# Altium footprint library 芯片.PcbLib: 193 footprints (part 1 of 13)
Each footprint in its own frame and in the unit in brackets; x right, y up, seen from the top. Pads: shape width x height; smd on the part's side, far side on the other; paste and mask are expansions set on the pad; w line width, h text height; cw(c..) or ccw(c..) is an arc to the next point about the centre after c.
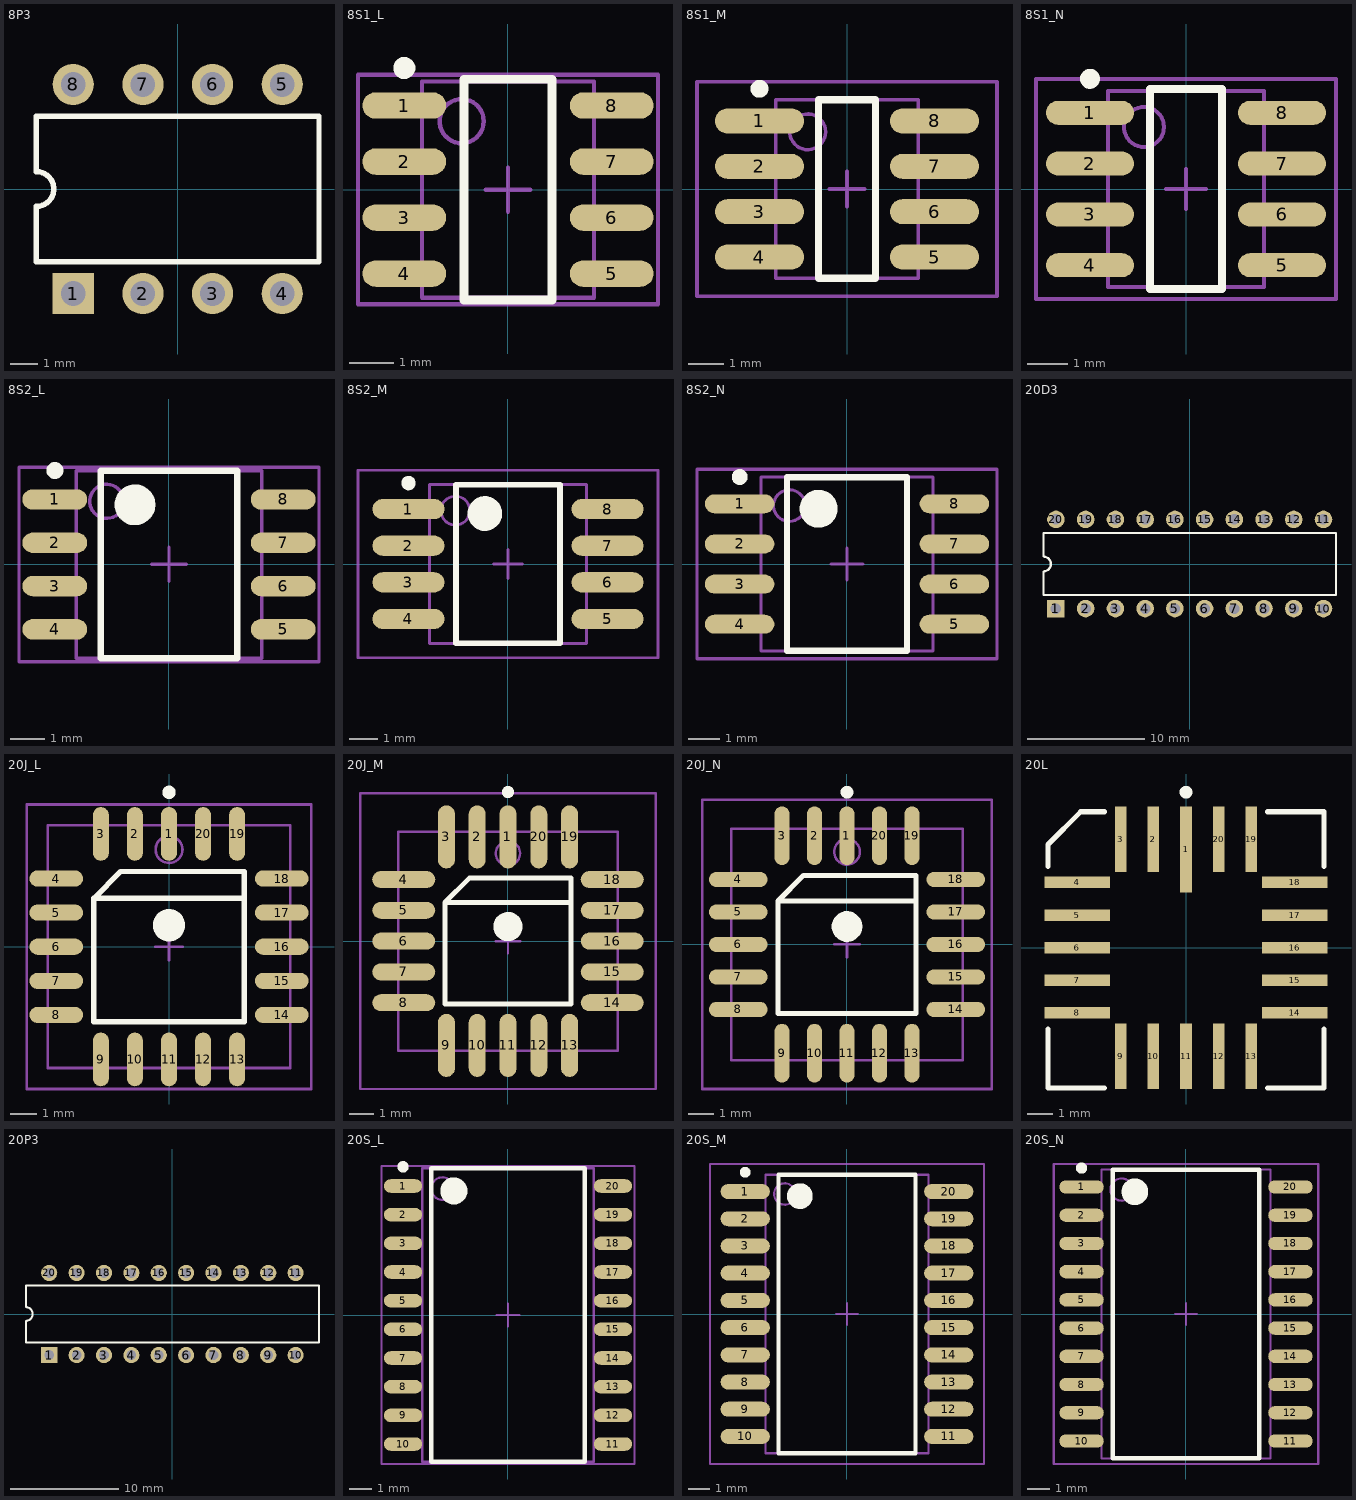
[diagram p0: the footprints below, top view; thin cyan lines are the x and y axes]

## 8P3 [mm] "DIP; 8 Leads; Row Spacing 7.62 mm; Pitch 2.54 mm"
height 5.33
pads (8):
  rect 1.5x1.5 hole 0.9: 1(-3.81,-3.81)
  round 1.5 hole 0.9: 2(-1.27,-3.81) 3(1.27,-3.81) 4(3.81,-3.81) 5(3.81,3.81) 6(1.27,3.81) 7(-1.27,3.81) 8(-3.81,3.81)
Top Overlay:
  lines w0.2: -5.15,-2.65 5.15,-2.65 5.15,2.65 -5.15,2.65 -5.15,0.635 cw(c-5.15,0) -5.15,-0.635 -5.15,-2.65

## 8S1_L [mm] "8-Pin Small Outline Integrated Circuit 1.27 mm Pitch, IPC High Density"
height 1.73
pads (8):
  oval 1.9x0.6 smd: 1(-2.35,1.905) 2(-2.35,0.635) 3(-2.35,-0.635) 4(-2.35,-1.905) 5(2.35,-1.905) 6(2.35,-0.635) 7(2.35,0.635) 8(2.35,1.905)
Top Overlay:
  circle w0.25: c-2.35,2.755 r0.125
  lines w0.2: -1,-2.5 1,-2.5 1,2.5 -1,2.5 -1,-2.5
Mechanical 13:
  circle w0.1: c-1.05,1.55 r0.5
  lines w0.1: -1.95,-2.45 1.95,-2.45 1.95,2.45 -1.95,2.45 -1.95,-2.45
Mechanical 15:
  lines w0.1: -0.5,0 0.5,0 ; 0,-0.5 0,0.5 ; -3.4,-2.6 3.4,-2.6 3.4,2.6 -3.4,2.6 -3.4,-2.6
3D body: height 1.73, standoff 0, extent -1.95,-2.45 1.95,2.45

## 8S1_M [mm] "8-Pin Small Outline Integrated Circuit 1.27 mm Pitch, IPC Low Density"
height 1.73
pads (8):
  oval 2.5x0.7 smd: 1(-2.45,1.905) 2(-2.45,0.635) 3(-2.45,-0.635) 4(-2.45,-1.905) 5(2.45,-1.905) 6(2.45,-0.635) 7(2.45,0.635) 8(2.45,1.905)
Top Overlay:
  circle w0.25: c-2.45,2.805 r0.125
  lines w0.2: -0.8,-2.5 -0.8,2.5 0.8,2.5 0.8,-2.5 -0.8,-2.5
Mechanical 13:
  circle w0.1: c-1.1,1.6 r0.5
  lines w0.1: -2,-2.5 -2,2.5 2,2.5 2,-2.5 -2,-2.5
Mechanical 15:
  lines w0.1: -0.5,0 0.5,0 ; 0,-0.5 0,0.5 ; -4.2,-3 -4.2,3 4.2,3 4.2,-3 -4.2,-3
3D body: height 1.73, standoff 0, extent -2,-2.5 2,2.5

## 8S1_N [mm] "8-Pin Small Outline Integrated Circuit 1.27 mm Pitch, IPC Medium Density"
height 1.73
pads (8):
  oval 2.2x0.6 smd: 1(-2.4,1.905) 2(-2.4,0.635) 3(-2.4,-0.635) 4(-2.4,-1.905) 5(2.4,-1.905) 6(2.4,-0.635) 7(2.4,0.635) 8(2.4,1.905)
Top Overlay:
  circle w0.25: c-2.4,2.755 r0.125
  lines w0.2: -0.9,-2.5 -0.9,2.5 0.9,2.5 0.9,-2.5 -0.9,-2.5
Mechanical 13:
  circle w0.1: c-1.05,1.55 r0.5
  lines w0.1: -1.95,-2.45 -1.95,2.45 1.95,2.45 1.95,-2.45 -1.95,-2.45
Mechanical 15:
  lines w0.1: -0.5,0 0.5,0 ; 0,-0.5 0,0.5 ; -3.75,-2.75 -3.75,2.75 3.75,2.75 3.75,-2.75 -3.75,-2.75
3D body: height 1.73, standoff 0, extent -1.95,-2.45 1.95,2.45

## 8S2_L [mm] "8-Pin Small Outline Package 1.27 mm Pitch, IPC High Density"
height 2.03
pads (8):
  oval 1.9x0.6 smd: 1(-3.35,1.905) 2(-3.35,0.635) 3(-3.35,-0.635) 4(-3.35,-1.905) 5(3.35,-1.905) 6(3.35,-0.635) 7(3.35,0.635) 8(3.35,1.905)
Top Overlay:
  circle w0.25: c-3.35,2.755 r0.125
  circle w0.6: c-1,1.75 r0.3
  lines w0.2: -2,-2.75 -2,2.75 2,2.75 2,-2.75 -2,-2.75
Mechanical 13:
  circle w0.1: c-1.825,1.85 r0.5
  lines w0.1: -2.725,-2.75 -2.725,2.75 2.725,2.75 2.725,-2.75 -2.725,-2.75
Mechanical 15:
  lines w0.1: -0.5,0 0.5,0 ; 0,-0.5 0,0.5 ; -4.4,-2.85 -4.4,2.85 4.4,2.85 4.4,-2.85 -4.4,-2.85
3D body: height 2.03, standoff 0, extent -2.725,-2.75 2.725,2.75

## 8S2_M [mm] "8-Pin Small Outline Package 1.27 mm Pitch, IPC Low Density"
height 2.03
pads (8):
  oval 2.5x0.7 smd: 1(-3.45,1.905) 2(-3.45,0.635) 3(-3.45,-0.635) 4(-3.45,-1.905) 5(3.45,-1.905) 6(3.45,-0.635) 7(3.45,0.635) 8(3.45,1.905)
Top Overlay:
  circle w0.6: c-0.8,1.75 r0.3
  circle w0.25: c-3.45,2.805 r0.125
  lines w0.2: -1.8,-2.75 1.8,-2.75 1.8,2.75 -1.8,2.75 -1.8,-2.75
Mechanical 13:
  circle w0.1: c-1.825,1.85 r0.5
  lines w0.1: -2.725,-2.75 2.725,-2.75 2.725,2.75 -2.725,2.75 -2.725,-2.75
Mechanical 15:
  lines w0.1: -0.5,0 0.5,0 ; 0,-0.5 0,0.5 ; -5.2,-3.25 5.2,-3.25 5.2,3.25 -5.2,3.25 -5.2,-3.25
3D body: height 2.03, standoff 0, extent -2.725,-2.75 2.725,2.75

## 8S2_N [mm] "8-Pin Small Outline Package 1.27 mm Pitch, IPC Medium Density"
height 2.03
pads (8):
  oval 2.2x0.6 smd: 1(-3.4,1.905) 2(-3.4,0.635) 3(-3.4,-0.635) 4(-3.4,-1.905) 5(3.4,-1.905) 6(3.4,-0.635) 7(3.4,0.635) 8(3.4,1.905)
Top Overlay:
  circle w0.25: c-3.4,2.755 r0.125
  circle w0.6: c-0.9,1.75 r0.3
  lines w0.2: -1.9,-2.75 -1.9,2.75 1.9,2.75 1.9,-2.75 -1.9,-2.75
Mechanical 13:
  circle w0.1: c-1.825,1.85 r0.5
  lines w0.1: -2.725,-2.75 -2.725,2.75 2.725,2.75 2.725,-2.75 -2.725,-2.75
Mechanical 15:
  lines w0.1: -0.5,0 0.5,0 ; 0,-0.5 0,0.5 ; -4.75,-3 -4.75,3 4.75,3 4.75,-3 -4.75,-3
3D body: height 2.03, standoff 0, extent -2.725,-2.75 2.725,2.75

## 20D3 [mm] "DIP; 20 Leads; Row Spacing 7.62 mm; Pitch 2.54 mm"
height 5.08
pads (20):
  rect 1.5x1.5 hole 0.9: 1(-11.43,-3.81)
  round 1.5 hole 0.9: 2(-8.89,-3.81) 3(-6.35,-3.81) 4(-3.81,-3.81) 5(-1.27,-3.81) 6(1.27,-3.81) 7(3.81,-3.81) 8(6.35,-3.81) 9(8.89,-3.81) 10(11.43,-3.81) 11(11.43,3.81) 12(8.89,3.81) 13(6.35,3.81) 14(3.81,3.81) 15(1.27,3.81) 16(-1.27,3.81) 17(-3.81,3.81) 18(-6.35,3.81) 19(-8.89,3.81) 20(-11.43,3.81)
Top Overlay:
  lines w0.2: -12.5,-2.65 12.5,-2.65 12.5,2.65 -12.5,2.65 -12.5,0.635 cw(c-12.5,0) -12.5,-0.635 -12.5,-2.65

## 20J_L [mm] "20-Pin Leaded Chip Carrier 1.27 mm Pitch, IPC High Density"
height 4.57
pads (20):
  oval 0.6x2 smd: 1(0,4.2) 2(-1.27,4.2) 3(-2.54,4.2) 9(-2.54,-4.2) 10(-1.27,-4.2) 11(0,-4.2) 12(1.27,-4.2) 13(2.54,-4.2) 19(2.54,4.2) 20(1.27,4.2)
  oval 2x0.6 smd: 4(-4.2,2.54) 5(-4.2,1.27) 6(-4.2,0) 7(-4.2,-1.27) 8(-4.2,-2.54) 14(4.2,-2.54) 15(4.2,-1.27) 16(4.2,0) 17(4.2,1.27) 18(4.2,2.54)
Top Overlay:
  circle w0.25: c0,5.75 r0.125
  circle w0.6: c0,0.8 r0.3
  lines w0.2: 2.8,1.8 -2.8,1.8 ; -2.8,1.8 -1.8,2.8 2.8,2.8 2.8,-2.8 -2.8,-2.8 -2.8,1.8
Mechanical 13:
  circle w0.1: c0,3.62 r0.5
  lines w0.1: -4.52,-4.52 -4.52,4.52 4.52,4.52 4.52,-4.52 -4.52,-4.52
Mechanical 15:
  lines w0.1: -0.5,0 0.5,0 ; 0,-0.5 0,0.5 ; -5.3,-5.3 -5.3,5.3 5.3,5.3 5.3,-5.3 -5.3,-5.3
3D body: height 4.57, standoff 0, extent -4.52,-4.52 4.52,4.52

## 20J_M [mm] "20-Pin Leaded Chip Carrier 1.27 mm Pitch, IPC Low Density"
height 4.57
pads (20):
  oval 0.7x2.6 smd: 1(0,4.3) 2(-1.27,4.3) 3(-2.54,4.3) 9(-2.54,-4.3) 10(-1.27,-4.3) 11(0,-4.3) 12(1.27,-4.3) 13(2.54,-4.3) 19(2.54,4.3) 20(1.27,4.3)
  oval 2.6x0.7 smd: 4(-4.3,2.54) 5(-4.3,1.27) 6(-4.3,0) 7(-4.3,-1.27) 8(-4.3,-2.54) 14(4.3,-2.54) 15(4.3,-1.27) 16(4.3,0) 17(4.3,1.27) 18(4.3,2.54)
Top Overlay:
  circle w0.25: c0,6.15 r0.125
  circle w0.6: c0,0.6 r0.3
  lines w0.2: 2.6,1.6 -2.6,1.6 ; -2.6,1.6 -1.6,2.6 2.6,2.6 2.6,-2.6 -2.6,-2.6 -2.6,1.6
Mechanical 13:
  circle w0.1: c0,3.62 r0.5
  lines w0.1: -4.52,-4.52 -4.52,4.52 4.52,4.52 4.52,-4.52 -4.52,-4.52
Mechanical 15:
  lines w0.1: -0.5,0 0.5,0 ; 0,-0.5 0,0.5 ; -6.1,-6.1 -6.1,6.1 6.1,6.1 6.1,-6.1 -6.1,-6.1
3D body: height 4.57, standoff 0, extent -4.52,-4.52 4.52,4.52

## 20J_N [mm] "20-Pin Leaded Chip Carrier 1.27 mm Pitch, IPC Medium Density"
height 4.57
pads (20):
  oval 0.6x2.3 smd: 1(0,4.25) 2(-1.27,4.25) 3(-2.54,4.25) 9(-2.54,-4.25) 10(-1.27,-4.25) 11(0,-4.25) 12(1.27,-4.25) 13(2.54,-4.25) 19(2.54,4.25) 20(1.27,4.25)
  oval 2.3x0.6 smd: 4(-4.25,2.54) 5(-4.25,1.27) 6(-4.25,0) 7(-4.25,-1.27) 8(-4.25,-2.54) 14(4.25,-2.54) 15(4.25,-1.27) 16(4.25,0) 17(4.25,1.27) 18(4.25,2.54)
Top Overlay:
  circle w0.6: c0,0.7 r0.3
  circle w0.25: c0,5.95 r0.125
  lines w0.2: 2.7,1.7 -2.7,1.7 ; -2.7,1.7 -2.7,-2.7 2.7,-2.7 2.7,2.7 -1.7,2.7 -2.7,1.7
Mechanical 13:
  circle w0.1: c0,3.62 r0.5
  lines w0.1: -4.52,-4.52 4.52,-4.52 4.52,4.52 -4.52,4.52 -4.52,-4.52
Mechanical 15:
  lines w0.1: -0.5,0 0.5,0 ; 0,-0.5 0,0.5 ; -5.65,-5.65 5.65,-5.65 5.65,5.65 -5.65,5.65 -5.65,-5.65
3D body: height 4.57, standoff 0, extent -4.52,-4.52 4.52,4.52

## 20L [mm] "Leadless Chip Carrier; 20 Terminals; Body 8.9 x 8.9 mm"
height 2.54
pads (20):
  rect 0.45x3.35 smd: 1(0,3.825)
  rect 0.45x2.55 smd: 2(-1.27,4.225) 3(-2.54,4.225) 9(-2.54,-4.225) 10(-1.27,-4.225) 11(0,-4.225) 12(1.27,-4.225) 13(2.54,-4.225) 19(2.54,4.225) 20(1.27,4.225)
  rect 2.55x0.45 smd: 4(-4.225,2.54) 5(-4.225,1.27) 6(-4.225,0) 7(-4.225,-1.27) 8(-4.225,-2.54) 14(4.225,-2.54) 15(4.225,-1.27) 16(4.225,0) 17(4.225,1.27) 18(4.225,2.54)
Top Overlay:
  circle w0.25: c0,6.05 r0.125
  lines w0.2: -5.375,-3.165 -5.375,-5.463 -3.165,-5.463 ; -5.375,3.165 -5.375,4.012 -4.1,5.288 -3.165,5.288 ; 3.165,-5.463 5.375,-5.463 5.375,-3.165 ; 3.165,5.288 5.375,5.288 5.375,3.165

## 20P3 [mm] "DIP; 20 Leads; Row Spacing 7.62 mm; Pitch 2.54 mm"
height 5.33
pads (20):
  rect 1.5x1.5 hole 0.9: 1(-11.43,-3.81)
  round 1.5 hole 0.9: 2(-8.89,-3.81) 3(-6.35,-3.81) 4(-3.81,-3.81) 5(-1.27,-3.81) 6(1.27,-3.81) 7(3.81,-3.81) 8(6.35,-3.81) 9(8.89,-3.81) 10(11.43,-3.81) 11(11.43,3.81) 12(8.89,3.81) 13(6.35,3.81) 14(3.81,3.81) 15(1.27,3.81) 16(-1.27,3.81) 17(-3.81,3.81) 18(-6.35,3.81) 19(-8.89,3.81) 20(-11.43,3.81)
Top Overlay:
  lines w0.2: -13.6,-2.65 13.6,-2.65 13.6,2.65 -13.6,2.65 -13.6,0.635 cw(c-13.6,0) -13.6,-0.635 -13.6,-2.65

## 20S_L [mm] "20-Pin Small Outline Integrated Circuit 1.27 mm Pitch, IPC High Density"
height 2.67
pads (20):
  oval 1.7x0.6 smd: 1(-4.65,5.715) 2(-4.65,4.445) 3(-4.65,3.175) 4(-4.65,1.905) 5(-4.65,0.635) 6(-4.65,-0.635) 7(-4.65,-1.905) 8(-4.65,-3.175) 9(-4.65,-4.445) 10(-4.65,-5.715) 11(4.65,-5.715) 12(4.65,-4.445) 13(4.65,-3.175) 14(4.65,-1.905) 15(4.65,-0.635) 16(4.65,0.635) 17(4.65,1.905) 18(4.65,3.175) 19(4.65,4.445) 20(4.65,5.715)
Top Overlay:
  circle w0.25: c-4.65,6.565 r0.125
  circle w0.6: c-2.4,5.5 r0.3
  lines w0.2: -3.4,-6.5 -3.4,6.5 3.4,6.5 3.4,-6.5 -3.4,-6.5
Mechanical 13:
  circle w0.1: c-2.9,5.6 r0.5
  lines w0.1: -3.8,-6.5 -3.8,6.5 3.8,6.5 3.8,-6.5 -3.8,-6.5
Mechanical 15:
  lines w0.1: -0.5,0 0.5,0 ; 0,-0.5 0,0.5 ; -5.6,-6.6 -5.6,6.6 5.6,6.6 5.6,-6.6 -5.6,-6.6
3D body: height 2.67, standoff 0, extent -3.8,-6.5 3.8,6.5

## 20S_M [mm] "20-Pin Small Outline Integrated Circuit 1.27 mm Pitch, IPC Low Density"
height 2.67
pads (20):
  oval 2.3x0.7 smd: 1(-4.75,5.715) 2(-4.75,4.445) 3(-4.75,3.175) 4(-4.75,1.905) 5(-4.75,0.635) 6(-4.75,-0.635) 7(-4.75,-1.905) 8(-4.75,-3.175) 9(-4.75,-4.445) 10(-4.75,-5.715) 11(4.75,-5.715) 12(4.75,-4.445) 13(4.75,-3.175) 14(4.75,-1.905) 15(4.75,-0.635) 16(4.75,0.635) 17(4.75,1.905) 18(4.75,3.175) 19(4.75,4.445) 20(4.75,5.715)
Top Overlay:
  circle w0.25: c-4.75,6.615 r0.125
  circle w0.6: c-2.2,5.5 r0.3
  lines w0.2: -3.2,-6.5 -3.2,6.5 3.2,6.5 3.2,-6.5 -3.2,-6.5
Mechanical 13:
  circle w0.1: c-2.9,5.6 r0.5
  lines w0.1: -3.8,-6.5 -3.8,6.5 3.8,6.5 3.8,-6.5 -3.8,-6.5
Mechanical 15:
  lines w0.1: -0.5,0 0.5,0 ; 0,-0.5 0,0.5 ; -6.4,-7 -6.4,7 6.4,7 6.4,-7 -6.4,-7
3D body: height 2.67, standoff 0, extent -3.8,-6.5 3.8,6.5

## 20S_N [mm] "20-Pin Small Outline Integrated Circuit 1.27 mm Pitch, IPC Medium Density"
height 2.67
pads (20):
  oval 2x0.6 smd: 1(-4.7,5.715) 2(-4.7,4.445) 3(-4.7,3.175) 4(-4.7,1.905) 5(-4.7,0.635) 6(-4.7,-0.635) 7(-4.7,-1.905) 8(-4.7,-3.175) 9(-4.7,-4.445) 10(-4.7,-5.715) 11(4.7,-5.715) 12(4.7,-4.445) 13(4.7,-3.175) 14(4.7,-1.905) 15(4.7,-0.635) 16(4.7,0.635) 17(4.7,1.905) 18(4.7,3.175) 19(4.7,4.445) 20(4.7,5.715)
Top Overlay:
  circle w0.25: c-4.7,6.565 r0.125
  circle w0.6: c-2.3,5.5 r0.3
  lines w0.2: -3.3,-6.5 -3.3,6.5 3.3,6.5 3.3,-6.5 -3.3,-6.5
Mechanical 13:
  circle w0.1: c-2.9,5.6 r0.5
  lines w0.1: -3.8,-6.5 -3.8,6.5 3.8,6.5 3.8,-6.5 -3.8,-6.5
Mechanical 15:
  lines w0.1: -0.5,0 0.5,0 ; 0,-0.5 0,0.5 ; -5.95,-6.75 -5.95,6.75 5.95,6.75 5.95,-6.75 -5.95,-6.75
3D body: height 2.67, standoff 0, extent -3.8,-6.5 3.8,6.5